# EAGLE library part 050_610_?-13/26 (library con-sullinselectronics)
.050 DIP EDGE CARD CONNECTOR .050 [1.27mm] CONTACT CENTERS .610" INSULATEOR HEIGHT Source: .050 DIP EDGE CARD.pdf
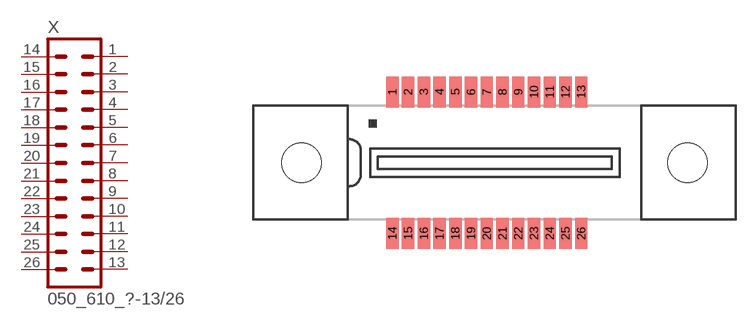
[diagram p6: symbol with the pads of 050_610_HF-13/26; footprint 050_610_HF-13/26]

Designator prefix X

## 050_610_HF-13/26 (OC_FARNELL: unknown; OC_NEWARK: unknown)  [050_610_HF-13/26]
1  1  pas
2  2  pas
3  3  pas
4  4  pas
5  5  pas
6  6  pas
7  7  pas
8  8  pas
9  9  pas
10  10  pas
11  11  pas
12  12  pas
13  13  pas
14  14  pas
15  15  pas
16  16  pas
17  17  pas
18  18  pas
19  19  pas
20  20  pas
21  21  pas
22  22  pas
23  23  pas
24  24  pas
25  25  pas
26  26  pas

## Footprint 050_610_HF-13/26 (pad centres in mm)
.050 DIP EDGE CARD CONNECTOR SURFACE MOUNT .050 [1.27mm] CONTACT CENTERS .610" INSULATEOR HEIGHT Source: .050 DIP EDGE CARD.pdf
smd 1 x 2.5: 1 -7.62,5.715; 2 -6.35,5.715; 3 -5.08,5.715; 4 -3.81,5.715; 5 -2.54,5.715; 6 -1.27,5.715; 7 0,5.715; 8 1.27,5.715; 9 2.54,5.715; 10 3.81,5.715; 11 5.08,5.715; 12 6.35,5.715; 13 7.62,5.715; 14 -7.62,-5.715; 15 -6.35,-5.715; 16 -5.08,-5.715; 17 -3.81,-5.715; 18 -2.54,-5.715; 19 -1.27,-5.715; 20 0,-5.715; 21 1.27,-5.715; 22 2.54,-5.715; 23 3.81,-5.715; 24 5.08,-5.715; 25 6.35,-5.715; 26 7.62,-5.715
hole 3.18 at -14.935,0
hole 3.18 at 16.205,0